# Altium footprint library 通用接插件.PcbLib: 40 footprints (part 2 of 3)
Each footprint in its own frame and in the unit in brackets; x right, y up, seen from the top. Pads: shape width x height; smd on the part's side, far side on the other; paste and mask are expansions set on the pad; w line width, h text height; cw(c..) or ccw(c..) is an arc to the next point about the centre after c.
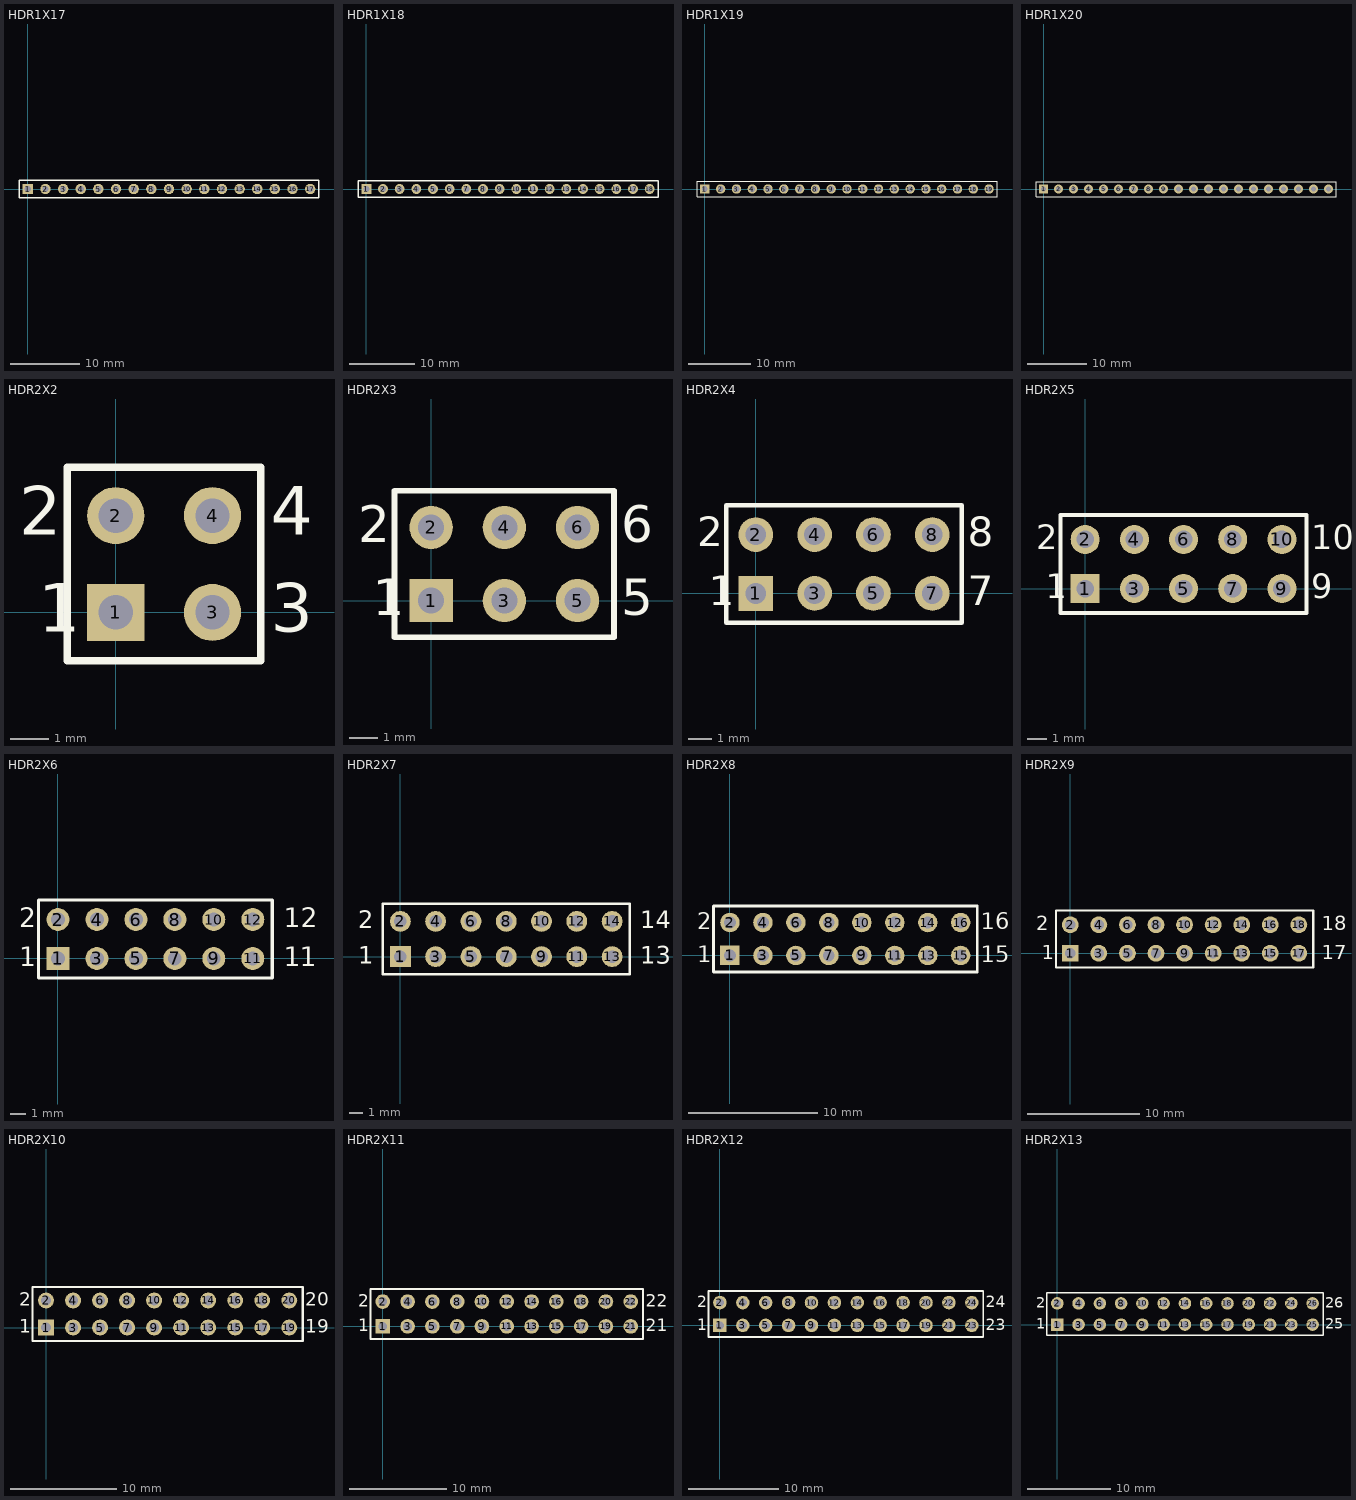
[diagram p1: the footprints below, top view; thin cyan lines are the x and y axes]

## HDR1X17 [mm] "Connector; Header; 17 Position"
pads (17):
  rect 1.5x1.5 hole 0.9: 1(0,0)
  round 1.5 hole 0.9: 2(2.54,0) 3(5.08,0) 4(7.62,0) 5(10.16,0) 6(12.7,0) 7(15.24,0) 8(17.78,0) 9(20.32,0) 10(22.86,0) 11(25.4,0) 12(27.94,0) 13(30.48,0) 14(33.02,0) 15(35.56,0) 16(38.1,0) 17(40.64,0)
Top Overlay:
  lines w0.2: -1.27,-1.27 41.91,-1.27 41.91,1.27 0.635,1.27 -1.27,1.27 -1.27,-1.27
3D body: height 7.58, standoff -2.94, extent 39.37,-1.27 41.91,1.27
3D body: height 7.58, standoff -2.94, extent 29.21,-1.27 31.75,1.27
3D body: height 7.58, standoff -2.94, extent 31.75,-1.27 34.29,1.27
3D body: height 7.58, standoff -2.94, extent 34.29,-1.27 36.83,1.27
3D body: height 7.58, standoff -2.94, extent 36.83,-1.27 39.37,1.27
3D body: height 7.58, standoff -2.94, extent 19.05,-1.27 21.59,1.27
3D body: height 7.58, standoff -2.94, extent 21.59,-1.27 24.13,1.27
3D body: height 7.58, standoff -2.94, extent 24.13,-1.27 26.67,1.27
3D body: height 7.58, standoff -2.94, extent 26.67,-1.27 29.21,1.27
3D body: height 7.58, standoff -2.94, extent 8.89,-1.27 11.43,1.27
3D body: height 7.58, standoff -2.94, extent 11.43,-1.27 13.97,1.27
3D body: height 7.58, standoff -2.94, extent 13.97,-1.27 16.51,1.27
3D body: height 7.58, standoff -2.94, extent 16.51,-1.27 19.05,1.27
3D body: height 7.58, standoff -2.94, extent -1.27,-1.27 1.27,1.27
3D body: height 7.58, standoff -2.94, extent 1.27,-1.27 3.81,1.27
3D body: height 7.58, standoff -2.94, extent 3.81,-1.27 6.35,1.27
3D body: height 7.58, standoff -2.94, extent 6.35,-1.27 8.89,1.27

## HDR1X18 [mm] "Connector; Header; 18 Position"
pads (18):
  rect 1.5x1.5 hole 0.9: 1(0,0)
  round 1.5 hole 0.9: 2(2.54,0) 3(5.08,0) 4(7.62,0) 5(10.16,0) 6(12.7,0) 7(15.24,0) 8(17.78,0) 9(20.32,0) 10(22.86,0) 11(25.4,0) 12(27.94,0) 13(30.48,0) 14(33.02,0) 15(35.56,0) 16(38.1,0) 17(40.64,0) 18(43.18,0)
Top Overlay:
  lines w0.2: -1.27,-1.27 44.45,-1.27 44.45,1.27 0.635,1.27 -1.27,1.27 -1.27,-1.27
3D body: height 7.58, standoff -2.94, extent 39.37,-1.27 41.91,1.27
3D body: height 7.58, standoff -2.94, extent 41.91,-1.27 44.45,1.27
3D body: height 7.58, standoff -2.94, extent 29.21,-1.27 31.75,1.27
3D body: height 7.58, standoff -2.94, extent 31.75,-1.27 34.29,1.27
3D body: height 7.58, standoff -2.94, extent 34.29,-1.27 36.83,1.27
3D body: height 7.58, standoff -2.94, extent 36.83,-1.27 39.37,1.27
3D body: height 7.58, standoff -2.94, extent 19.05,-1.27 21.59,1.27
3D body: height 7.58, standoff -2.94, extent 21.59,-1.27 24.13,1.27
3D body: height 7.58, standoff -2.94, extent 24.13,-1.27 26.67,1.27
3D body: height 7.58, standoff -2.94, extent 26.67,-1.27 29.21,1.27
3D body: height 7.58, standoff -2.94, extent 8.89,-1.27 11.43,1.27
3D body: height 7.58, standoff -2.94, extent 11.43,-1.27 13.97,1.27
3D body: height 7.58, standoff -2.94, extent 13.97,-1.27 16.51,1.27
3D body: height 7.58, standoff -2.94, extent 16.51,-1.27 19.05,1.27
3D body: height 7.58, standoff -2.94, extent -1.27,-1.27 1.27,1.27
3D body: height 7.58, standoff -2.94, extent 1.27,-1.27 3.81,1.27
3D body: height 7.58, standoff -2.94, extent 3.81,-1.27 6.35,1.27
3D body: height 7.58, standoff -2.94, extent 6.35,-1.27 8.89,1.27

## HDR1X19 [mm] "Connector; Header; 19 Position"
pads (19):
  rect 1.5x1.5 hole 0.9: 1(0,0)
  round 1.5 hole 0.9: 2(2.54,0) 3(5.08,0) 4(7.62,0) 5(10.16,0) 6(12.7,0) 7(15.24,0) 8(17.78,0) 9(20.32,0) 10(22.86,0) 11(25.4,0) 12(27.94,0) 13(30.48,0) 14(33.02,0) 15(35.56,0) 16(38.1,0) 17(40.64,0) 18(43.18,0) 19(45.72,0)
Top Overlay:
  lines w0.2: 37.465,1.27 37.677,1.27 ; -1.27,-1.27 46.99,-1.27 46.99,1.27 0.635,1.27 -1.27,1.27 -1.27,-1.27
3D body: height 7.58, standoff -2.94, extent 39.37,-1.27 41.91,1.27
3D body: height 7.58, standoff -2.94, extent 41.91,-1.27 44.45,1.27
3D body: height 7.58, standoff -2.94, extent 44.45,-1.27 46.99,1.27
3D body: height 7.58, standoff -2.94, extent 29.21,-1.27 31.75,1.27
3D body: height 7.58, standoff -2.94, extent 31.75,-1.27 34.29,1.27
3D body: height 7.58, standoff -2.94, extent 34.29,-1.27 36.83,1.27
3D body: height 7.58, standoff -2.94, extent 36.83,-1.27 39.37,1.27
3D body: height 7.58, standoff -2.94, extent 19.05,-1.27 21.59,1.27
3D body: height 7.58, standoff -2.94, extent 21.59,-1.27 24.13,1.27
3D body: height 7.58, standoff -2.94, extent 24.13,-1.27 26.67,1.27
3D body: height 7.58, standoff -2.94, extent 26.67,-1.27 29.21,1.27
3D body: height 7.58, standoff -2.94, extent 8.89,-1.27 11.43,1.27
3D body: height 7.58, standoff -2.94, extent 11.43,-1.27 13.97,1.27
3D body: height 7.58, standoff -2.94, extent 13.97,-1.27 16.51,1.27
3D body: height 7.58, standoff -2.94, extent 16.51,-1.27 19.05,1.27
3D body: height 7.58, standoff -2.94, extent -1.27,-1.27 1.27,1.27
3D body: height 7.58, standoff -2.94, extent 1.27,-1.27 3.81,1.27
3D body: height 7.58, standoff -2.94, extent 3.81,-1.27 6.35,1.27
3D body: height 7.58, standoff -2.94, extent 6.35,-1.27 8.89,1.27

## HDR1X20 [mm] "Connector; Header; 20 Position"
pads (20):
  rect 1.5x1.5 hole 0.9: 1(0,0)
  round 1.5 hole 0.9: 2(2.54,0) 3(5.08,0) 4(7.62,0) 5(10.16,0) 6(12.7,0) 7(15.24,0) 8(17.78,0) 9(20.32,0) 10(22.86,0) 11(25.4,0) 12(27.94,0) 13(30.48,0) 14(33.02,0) 15(35.56,0) 16(38.1,0) 17(40.64,0) 18(43.18,0) 19(45.72,0) 20(48.26,0)
Top Overlay:
  lines w0.2: -1.27,-1.27 49.53,-1.27 49.53,1.27 0.635,1.27 -1.27,1.27 -1.27,-1.27
3D body: height 7.58, standoff -2.94, extent 6.35,-1.27 8.89,1.27
3D body: height 7.58, standoff -2.94, extent 3.81,-1.27 6.35,1.27
3D body: height 7.58, standoff -2.94, extent 1.27,-1.27 3.81,1.27
3D body: height 7.58, standoff -2.94, extent -1.27,-1.27 1.27,1.27
3D body: height 7.58, standoff -2.94, extent 16.51,-1.27 19.05,1.27
3D body: height 7.58, standoff -2.94, extent 13.97,-1.27 16.51,1.27
3D body: height 7.58, standoff -2.94, extent 11.43,-1.27 13.97,1.27
3D body: height 7.58, standoff -2.94, extent 8.89,-1.27 11.43,1.27
3D body: height 7.58, standoff -2.94, extent 26.67,-1.27 29.21,1.27
3D body: height 7.58, standoff -2.94, extent 24.13,-1.27 26.67,1.27
3D body: height 7.58, standoff -2.94, extent 21.59,-1.27 24.13,1.27
3D body: height 7.58, standoff -2.94, extent 19.05,-1.27 21.59,1.27
3D body: height 7.58, standoff -2.94, extent 36.83,-1.27 39.37,1.27
3D body: height 7.58, standoff -2.94, extent 34.29,-1.27 36.83,1.27
3D body: height 7.58, standoff -2.94, extent 31.75,-1.27 34.29,1.27
3D body: height 7.58, standoff -2.94, extent 29.21,-1.27 31.75,1.27
3D body: height 7.58, standoff -2.94, extent 46.99,-1.27 49.53,1.27
3D body: height 7.58, standoff -2.94, extent 44.45,-1.27 46.99,1.27
3D body: height 7.58, standoff -2.94, extent 41.91,-1.27 44.45,1.27
3D body: height 7.58, standoff -2.94, extent 39.37,-1.27 41.91,1.27

## HDR2X2 [mm] "Connector; Header; 2x2 Position"
pads (4):
  rect 1.5x1.5 hole 0.9: 1(0,0)
  round 1.5 hole 0.9: 2(0,2.54) 3(2.54,0) 4(2.54,2.54)
Top Overlay:
  lines w0.2: -1.27,-1.27 3.81,-1.27 3.81,3.81 -1.27,3.81 -1.27,-1.27
  text "3" at 4.064,-0.508 h1.27
  text "4" at 4.064,2.032 h1.27
  text "2" at -2.54,2.032 h1.27
  text "1" at -2.032,-0.508 h1.27
3D body: height 7.58, standoff -2.94, extent 1.27,1.27 3.81,3.81
3D body: height 7.58, standoff -2.94, extent -1.27,1.27 1.27,3.81
3D body: height 7.58, standoff -2.94, extent 1.27,-1.27 3.81,1.27
3D body: height 7.58, standoff -2.94, extent -1.27,-1.27 1.27,1.27

## HDR2X3 [mm] "Connector; Header; 3x2 Position"
pads (6):
  rect 1.5x1.5 hole 0.9: 1(0,0)
  round 1.5 hole 0.9: 2(0,2.54) 3(2.54,0) 4(2.54,2.54) 5(5.08,0) 6(5.08,2.54)
Top Overlay:
  lines w0.2: 1.482,-1.27 6.35,-1.27 ; 6.35,-1.27 6.35,3.81 -1.27,3.81 -1.27,-1.27 6.35,-1.27
  text "6" at 6.604,2.032 h1.27
  text "5" at 6.604,-0.508 h1.27
  text "2" at -2.54,2.032 h1.27
  text "1" at -2.032,-0.508 h1.27
3D body: height 7.58, standoff -2.94, extent 1.27,1.27 3.81,3.81
3D body: height 7.58, standoff -2.94, extent -1.27,1.27 1.27,3.81
3D body: height 7.58, standoff -2.94, extent 1.27,-1.27 3.81,1.27
3D body: height 7.58, standoff -2.94, extent -1.27,-1.27 1.27,1.27
3D body: height 7.58, standoff -2.94, extent 3.81,-1.27 6.35,1.27
3D body: height 7.58, standoff -2.94, extent 3.81,1.27 6.35,3.81

## HDR2X4 [mm] "Connector; Header; 4x2 Position"
pads (8):
  rect 1.5x1.5 hole 0.9: 1(0,0)
  round 1.5 hole 0.9: 2(0,2.54) 3(2.54,0) 4(2.54,2.54) 5(5.08,0) 6(5.08,2.54) 7(7.62,0) 8(7.62,2.54)
Top Overlay:
  lines w0.2: -1.27,-1.27 -1.27,3.81 8.89,3.81 8.89,-1.27 -1.27,-1.27
  text "8" at 9.144,2.032 h1.27
  text "7" at 9.144,-0.508 h1.27
  text "1" at -2.032,-0.508 h1.27
  text "2" at -2.54,2.032 h1.27
3D body: height 7.58, standoff -2.94, extent 6.35,1.27 8.89,3.81
3D body: height 7.58, standoff -2.94, extent 6.35,-1.27 8.89,1.27
3D body: height 7.58, standoff -2.94, extent 1.27,1.27 3.81,3.81
3D body: height 7.58, standoff -2.94, extent -1.27,1.27 1.27,3.81
3D body: height 7.58, standoff -2.94, extent 1.27,-1.27 3.81,1.27
3D body: height 7.58, standoff -2.94, extent -1.27,-1.27 1.27,1.27
3D body: height 7.58, standoff -2.94, extent 3.81,-1.27 6.35,1.27
3D body: height 7.58, standoff -2.94, extent 3.81,1.27 6.35,3.81

## HDR2X5 [mm] "Connector; Header; 5x2 Position"
pads (10):
  rect 1.5x1.5 hole 0.9: 1(0,0)
  round 1.5 hole 0.9: 2(0,2.54) 3(2.54,0) 4(2.54,2.54) 5(5.08,0) 6(5.08,2.54) 7(7.62,0) 8(7.62,2.54) 9(10.16,0) 10(10.16,2.54)
Top Overlay:
  lines w0.2: -1.27,-1.27 -1.27,3.81 11.43,3.81 11.43,-1.27 -1.27,-1.27
  text "2" at -2.54,2.032 h1.27
  text "1" at -2.032,-0.508 h1.27
  text "9" at 11.684,-0.508 h1.27
  text "10" at 11.684,2.032 h1.27
3D body: height 7.58, standoff -2.94, extent 8.89,1.27 11.43,3.81
3D body: height 7.58, standoff -2.94, extent 8.89,-1.27 11.43,1.27
3D body: height 7.58, standoff -2.94, extent 6.35,1.27 8.89,3.81
3D body: height 7.58, standoff -2.94, extent 6.35,-1.27 8.89,1.27
3D body: height 7.58, standoff -2.94, extent 3.81,1.27 6.35,3.81
3D body: height 7.58, standoff -2.94, extent 3.81,-1.27 6.35,1.27
3D body: height 7.58, standoff -2.94, extent 1.27,1.27 3.81,3.81
3D body: height 7.58, standoff -2.94, extent 1.27,-1.27 3.81,1.27
3D body: height 7.58, standoff -2.94, extent -1.27,1.27 1.27,3.81
3D body: height 7.58, standoff -2.94, extent -1.27,-1.27 1.27,1.27

## HDR2X6 [mm] "Connector; Header; 6x2 Position"
pads (12):
  rect 1.5x1.5 hole 0.9: 1(0,0)
  round 1.5 hole 0.9: 2(0,2.54) 3(2.54,0) 4(2.54,2.54) 5(5.08,0) 6(5.08,2.54) 7(7.62,0) 8(7.62,2.54) 9(10.16,0) 10(10.16,2.54) 11(12.7,0) 12(12.7,2.54)
Top Overlay:
  lines w0.2: -1.27,-1.27 13.97,-1.27 13.97,3.81 -1.27,3.81 -1.27,-1.27
  text "12" at 14.732,2.032 h1.27
  text "1" at 15.748,-0.508 h1.27
  text "1" at 14.732,-0.508 h1.27
  text "1" at -2.54,-0.508 h1.27
  text "2" at -2.54,2.032 h1.27
3D body: height 7.58, standoff -2.94, extent 11.43,1.27 13.97,3.81
3D body: height 7.58, standoff -2.94, extent 11.43,-1.27 13.97,1.27
3D body: height 7.58, standoff -2.94, extent 8.89,1.27 11.43,3.81
3D body: height 7.58, standoff -2.94, extent 8.89,-1.27 11.43,1.27
3D body: height 7.58, standoff -2.94, extent 6.35,1.27 8.89,3.81
3D body: height 7.58, standoff -2.94, extent 6.35,-1.27 8.89,1.27
3D body: height 7.58, standoff -2.94, extent 3.81,1.27 6.35,3.81
3D body: height 7.58, standoff -2.94, extent 3.81,-1.27 6.35,1.27
3D body: height 7.58, standoff -2.94, extent 1.27,1.27 3.81,3.81
3D body: height 7.58, standoff -2.94, extent 1.27,-1.27 3.81,1.27
3D body: height 7.58, standoff -2.94, extent -1.27,1.27 1.27,3.81
3D body: height 7.58, standoff -2.94, extent -1.27,-1.27 1.27,1.27

## HDR2X7 [mm] "Connector; Header; 7x2 Position"
pads (14):
  rect 1.5x1.5 hole 0.9: 1(0,0)
  round 1.5 hole 0.9: 2(0,2.54) 3(2.54,0) 4(2.54,2.54) 5(5.08,0) 6(5.08,2.54) 7(7.62,0) 8(7.62,2.54) 9(10.16,0) 10(10.16,2.54) 11(12.7,0) 12(12.7,2.54) 13(15.24,0) 14(15.24,2.54)
Top Overlay:
  lines w0.2: -1.27,-1.27 16.51,-1.27 16.51,3.81 -1.27,3.81 -1.27,-1.27
  text "13" at 17.272,-0.508 h1.27
  text "14" at 17.272,2.032 h1.27
  text "1" at -3.048,-0.508 h1.27
  text "2" at -3.048,2.032 h1.27
3D body: height 7.58, standoff -2.94, extent 13.97,1.27 16.51,3.81
3D body: height 7.58, standoff -2.94, extent 13.97,-1.27 16.51,1.27
3D body: height 7.58, standoff -2.94, extent 11.43,1.27 13.97,3.81
3D body: height 7.58, standoff -2.94, extent 11.43,-1.27 13.97,1.27
3D body: height 7.58, standoff -2.94, extent 8.89,1.27 11.43,3.81
3D body: height 7.58, standoff -2.94, extent 8.89,-1.27 11.43,1.27
3D body: height 7.58, standoff -2.94, extent 6.35,1.27 8.89,3.81
3D body: height 7.58, standoff -2.94, extent 6.35,-1.27 8.89,1.27
3D body: height 7.58, standoff -2.94, extent 3.81,1.27 6.35,3.81
3D body: height 7.58, standoff -2.94, extent 3.81,-1.27 6.35,1.27
3D body: height 7.58, standoff -2.94, extent 1.27,1.27 3.81,3.81
3D body: height 7.58, standoff -2.94, extent 1.27,-1.27 3.81,1.27
3D body: height 7.58, standoff -2.94, extent -1.27,1.27 1.27,3.81
3D body: height 7.58, standoff -2.94, extent -1.27,-1.27 1.27,1.27

## HDR2X8 [mm] "Connector; Header; 8x2 Position"
pads (16):
  rect 1.5x1.5 hole 0.9: 1(0,0)
  round 1.5 hole 0.9: 2(0,2.54) 3(2.54,0) 4(2.54,2.54) 5(5.08,0) 6(5.08,2.54) 7(7.62,0) 8(7.62,2.54) 9(10.16,0) 10(10.16,2.54) 11(12.7,0) 12(12.7,2.54) 13(15.24,0) 14(15.24,2.54) 15(17.78,0) 16(17.78,2.54)
Top Overlay:
  lines w0.2: -1.27,-1.27 19.05,-1.27 19.05,3.81 -1.27,3.81 -1.27,-1.27
  text "16" at 19.304,2.032 h1.27
  text "15" at 19.304,-0.508 h1.27
  text "1" at -2.54,-0.508 h1.27
  text "2" at -2.54,2.032 h1.27
3D body: height 7.58, standoff -2.94, extent 16.51,1.27 19.05,3.81
3D body: height 7.58, standoff -2.94, extent 16.51,-1.27 19.05,1.27
3D body: height 7.58, standoff -2.94, extent 13.97,1.27 16.51,3.81
3D body: height 7.58, standoff -2.94, extent 13.97,-1.27 16.51,1.27
3D body: height 7.58, standoff -2.94, extent 11.43,1.27 13.97,3.81
3D body: height 7.58, standoff -2.94, extent 11.43,-1.27 13.97,1.27
3D body: height 7.58, standoff -2.94, extent 8.89,1.27 11.43,3.81
3D body: height 7.58, standoff -2.94, extent 8.89,-1.27 11.43,1.27
3D body: height 7.58, standoff -2.94, extent 6.35,1.27 8.89,3.81
3D body: height 7.58, standoff -2.94, extent 6.35,-1.27 8.89,1.27
3D body: height 7.58, standoff -2.94, extent 3.81,1.27 6.35,3.81
3D body: height 7.58, standoff -2.94, extent 3.81,-1.27 6.35,1.27
3D body: height 7.58, standoff -2.94, extent 1.27,1.27 3.81,3.81
3D body: height 7.58, standoff -2.94, extent 1.27,-1.27 3.81,1.27
3D body: height 7.58, standoff -2.94, extent -1.27,1.27 1.27,3.81
3D body: height 7.58, standoff -2.94, extent -1.27,-1.27 1.27,1.27

## HDR2X9 [mm] "Connector; Header; 9x2 Position"
pads (18):
  rect 1.5x1.5 hole 0.9: 1(0,0)
  round 1.5 hole 0.9: 2(0,2.54) 3(2.54,0) 4(2.54,2.54) 5(5.08,0) 6(5.08,2.54) 7(7.62,0) 8(7.62,2.54) 9(10.16,0) 10(10.16,2.54) 11(12.7,0) 12(12.7,2.54) 13(15.24,0) 14(15.24,2.54) 15(17.78,0) 16(17.78,2.54) 17(20.32,0) 18(20.32,2.54)
Top Overlay:
  lines w0.2: -1.27,-1.27 21.59,-1.27 21.59,3.81 -1.27,3.81 -1.27,-1.27
  text "18" at 22.352,2.032 h1.27
  text "17" at 22.352,-0.508 h1.27
  text "1" at -2.54,-0.508 h1.27
  text "2" at -3.048,2.032 h1.27
3D body: height 7.58, standoff -2.94, extent -1.27,1.27 1.27,3.81
3D body: height 7.58, standoff -2.94, extent -1.27,-1.27 1.27,1.27
3D body: height 7.58, standoff -2.94, extent 1.27,1.27 3.81,3.81
3D body: height 7.58, standoff -2.94, extent 1.27,-1.27 3.81,1.27
3D body: height 7.58, standoff -2.94, extent 3.81,1.27 6.35,3.81
3D body: height 7.58, standoff -2.94, extent 3.81,-1.27 6.35,1.27
3D body: height 7.58, standoff -2.94, extent 6.35,1.27 8.89,3.81
3D body: height 7.58, standoff -2.94, extent 6.35,-1.27 8.89,1.27
3D body: height 7.58, standoff -2.94, extent 8.89,1.27 11.43,3.81
3D body: height 7.58, standoff -2.94, extent 8.89,-1.27 11.43,1.27
3D body: height 7.58, standoff -2.94, extent 11.43,1.27 13.97,3.81
3D body: height 7.58, standoff -2.94, extent 11.43,-1.27 13.97,1.27
3D body: height 7.58, standoff -2.94, extent 13.97,1.27 16.51,3.81
3D body: height 7.58, standoff -2.94, extent 13.97,-1.27 16.51,1.27
3D body: height 7.58, standoff -2.94, extent 16.51,1.27 19.05,3.81
3D body: height 7.58, standoff -2.94, extent 16.51,-1.27 19.05,1.27
3D body: height 7.58, standoff -2.94, extent 19.05,1.27 21.59,3.81
3D body: height 7.58, standoff -2.94, extent 19.05,-1.27 21.59,1.27

## HDR2X10 [mm] "Connector; Header; 10x2 Position"
pads (20):
  rect 1.5x1.5 hole 0.9: 1(0,0)
  round 1.5 hole 0.9: 2(0,2.54) 3(2.54,0) 4(2.54,2.54) 5(5.08,0) 6(5.08,2.54) 7(7.62,0) 8(7.62,2.54) 9(10.16,0) 10(10.16,2.54) 11(12.7,0) 12(12.7,2.54) 13(15.24,0) 14(15.24,2.54) 15(17.78,0) 16(17.78,2.54) 17(20.32,0) 18(20.32,2.54) 19(22.86,0) 20(22.86,2.54)
Top Overlay:
  lines w0.2: -1.27,-1.27 -1.27,3.81 0.635,3.81 24.13,3.81 24.13,-1.27 0.635,-1.27 -1.27,-1.27
  text "2" at -2.54,2.032 h1.27
  text "1" at -2.54,-0.508 h1.27
  text "19" at 24.384,-0.508 h1.27
  text "20" at 24.384,2.032 h1.27
3D body: height 7.58, standoff -2.94, extent 21.59,1.27 24.13,3.81
3D body: height 7.58, standoff -2.94, extent 21.59,-1.27 24.13,1.27
3D body: height 7.58, standoff -2.94, extent 19.05,1.27 21.59,3.81
3D body: height 7.58, standoff -2.94, extent 19.05,-1.27 21.59,1.27
3D body: height 7.58, standoff -2.94, extent 16.51,1.27 19.05,3.81
3D body: height 7.58, standoff -2.94, extent 16.51,-1.27 19.05,1.27
3D body: height 7.58, standoff -2.94, extent 13.97,1.27 16.51,3.81
3D body: height 7.58, standoff -2.94, extent 13.97,-1.27 16.51,1.27
3D body: height 7.58, standoff -2.94, extent 11.43,1.27 13.97,3.81
3D body: height 7.58, standoff -2.94, extent 11.43,-1.27 13.97,1.27
3D body: height 7.58, standoff -2.94, extent 8.89,1.27 11.43,3.81
3D body: height 7.58, standoff -2.94, extent 8.89,-1.27 11.43,1.27
3D body: height 7.58, standoff -2.94, extent 6.35,1.27 8.89,3.81
3D body: height 7.58, standoff -2.94, extent 6.35,-1.27 8.89,1.27
3D body: height 7.58, standoff -2.94, extent 3.81,1.27 6.35,3.81
3D body: height 7.58, standoff -2.94, extent 3.81,-1.27 6.35,1.27
3D body: height 7.58, standoff -2.94, extent 1.27,1.27 3.81,3.81
3D body: height 7.58, standoff -2.94, extent 1.27,-1.27 3.81,1.27
3D body: height 7.58, standoff -2.94, extent -1.27,1.27 1.27,3.81
3D body: height 7.58, standoff -2.94, extent -1.27,-1.27 1.27,1.27

## HDR2X11 [mm] "Connector; Header; 11x2 Position"
pads (22):
  rect 1.5x1.5 hole 0.9: 1(0,0)
  round 1.5 hole 0.9: 2(0,2.54) 3(2.54,0) 4(2.54,2.54) 5(5.08,0) 6(5.08,2.54) 7(7.62,0) 8(7.62,2.54) 9(10.16,0) 10(10.16,2.54) 11(12.7,0) 12(12.7,2.54) 13(15.24,0) 14(15.24,2.54) 15(17.78,0) 16(17.78,2.54) 17(20.32,0) 18(20.32,2.54) 19(22.86,0) 20(22.86,2.54) 21(25.4,0) 22(25.4,2.54)
Top Overlay:
  lines w0.2: -1.27,-1.27 -1.27,3.81 26.67,3.81 26.67,-1.27 -1.27,-1.27
  text "1" at -2.54,-0.508 h1.27
  text "2" at -2.54,2.032 h1.27
  text "21" at 26.924,-0.508 h1.27
  text "22" at 26.924,2.032 h1.27
3D body: height 7.58, standoff -2.94, extent 24.13,1.27 26.67,3.81
3D body: height 7.58, standoff -2.94, extent 24.13,-1.27 26.67,1.27
3D body: height 7.58, standoff -2.94, extent 21.59,1.27 24.13,3.81
3D body: height 7.58, standoff -2.94, extent 21.59,-1.27 24.13,1.27
3D body: height 7.58, standoff -2.94, extent 19.05,1.27 21.59,3.81
3D body: height 7.58, standoff -2.94, extent 19.05,-1.27 21.59,1.27
3D body: height 7.58, standoff -2.94, extent 16.51,1.27 19.05,3.81
3D body: height 7.58, standoff -2.94, extent 16.51,-1.27 19.05,1.27
3D body: height 7.58, standoff -2.94, extent 13.97,1.27 16.51,3.81
3D body: height 7.58, standoff -2.94, extent 13.97,-1.27 16.51,1.27
3D body: height 7.58, standoff -2.94, extent 11.43,1.27 13.97,3.81
3D body: height 7.58, standoff -2.94, extent 11.43,-1.27 13.97,1.27
3D body: height 7.58, standoff -2.94, extent 8.89,1.27 11.43,3.81
3D body: height 7.58, standoff -2.94, extent 8.89,-1.27 11.43,1.27
3D body: height 7.58, standoff -2.94, extent 6.35,1.27 8.89,3.81
3D body: height 7.58, standoff -2.94, extent 6.35,-1.27 8.89,1.27
3D body: height 7.58, standoff -2.94, extent 3.81,1.27 6.35,3.81
3D body: height 7.58, standoff -2.94, extent 3.81,-1.27 6.35,1.27
3D body: height 7.58, standoff -2.94, extent 1.27,1.27 3.81,3.81
3D body: height 7.58, standoff -2.94, extent 1.27,-1.27 3.81,1.27
3D body: height 7.58, standoff -2.94, extent -1.27,1.27 1.27,3.81
3D body: height 7.58, standoff -2.94, extent -1.27,-1.27 1.27,1.27

## HDR2X12 [mm] "Connector; Header; 12x2 Position"
pads (24):
  rect 1.5x1.5 hole 0.9: 1(0,0)
  round 1.5 hole 0.9: 2(0,2.54) 3(2.54,0) 4(2.54,2.54) 5(5.08,0) 6(5.08,2.54) 7(7.62,0) 8(7.62,2.54) 9(10.16,0) 10(10.16,2.54) 11(12.7,0) 12(12.7,2.54) 13(15.24,0) 14(15.24,2.54) 15(17.78,0) 16(17.78,2.54) 17(20.32,0) 18(20.32,2.54) 19(22.86,0) 20(22.86,2.54) 21(25.4,0) 22(25.4,2.54) 23(27.94,0) 24(27.94,2.54)
Top Overlay:
  lines w0.2: -1.27,-1.27 -1.27,3.81 29.21,3.81 29.21,-1.27 -1.27,-1.27
  text "1" at -2.54,-0.508 h1.27
  text "2" at -2.54,2.032 h1.27
  text "23" at 29.464,-0.508 h1.27
  text "24" at 29.464,2.032 h1.27
3D body: height 7.58, standoff -2.94, extent 26.67,1.27 29.21,3.81
3D body: height 7.58, standoff -2.94, extent 26.67,-1.27 29.21,1.27
3D body: height 7.58, standoff -2.94, extent 24.13,1.27 26.67,3.81
3D body: height 7.58, standoff -2.94, extent 24.13,-1.27 26.67,1.27
3D body: height 7.58, standoff -2.94, extent 21.59,1.27 24.13,3.81
3D body: height 7.58, standoff -2.94, extent 21.59,-1.27 24.13,1.27
3D body: height 7.58, standoff -2.94, extent 19.05,1.27 21.59,3.81
3D body: height 7.58, standoff -2.94, extent 19.05,-1.27 21.59,1.27
3D body: height 7.58, standoff -2.94, extent 16.51,1.27 19.05,3.81
3D body: height 7.58, standoff -2.94, extent 16.51,-1.27 19.05,1.27
3D body: height 7.58, standoff -2.94, extent 13.97,1.27 16.51,3.81
3D body: height 7.58, standoff -2.94, extent 13.97,-1.27 16.51,1.27
3D body: height 7.58, standoff -2.94, extent 11.43,1.27 13.97,3.81
3D body: height 7.58, standoff -2.94, extent 11.43,-1.27 13.97,1.27
3D body: height 7.58, standoff -2.94, extent 8.89,1.27 11.43,3.81
3D body: height 7.58, standoff -2.94, extent 8.89,-1.27 11.43,1.27
3D body: height 7.58, standoff -2.94, extent 6.35,1.27 8.89,3.81
3D body: height 7.58, standoff -2.94, extent 6.35,-1.27 8.89,1.27
3D body: height 7.58, standoff -2.94, extent 3.81,1.27 6.35,3.81
3D body: height 7.58, standoff -2.94, extent 3.81,-1.27 6.35,1.27
3D body: height 7.58, standoff -2.94, extent 1.27,1.27 3.81,3.81
3D body: height 7.58, standoff -2.94, extent 1.27,-1.27 3.81,1.27
3D body: height 7.58, standoff -2.94, extent -1.27,1.27 1.27,3.81
3D body: height 7.58, standoff -2.94, extent -1.27,-1.27 1.27,1.27

## HDR2X13 [mm] "Connector; Header; 13x2 Position"
pads (26):
  rect 1.5x1.5 hole 0.9: 1(0,0)
  round 1.5 hole 0.9: 2(0,2.54) 3(2.54,0) 4(2.54,2.54) 5(5.08,0) 6(5.08,2.54) 7(7.62,0) 8(7.62,2.54) 9(10.16,0) 10(10.16,2.54) 11(12.7,0) 12(12.7,2.54) 13(15.24,0) 14(15.24,2.54) 15(17.78,0) 16(17.78,2.54) 17(20.32,0) 18(20.32,2.54) 19(22.86,0) 20(22.86,2.54) 21(25.4,0) 22(25.4,2.54) 23(27.94,0) 24(27.94,2.54) 25(30.48,0) 26(30.48,2.54)
Top Overlay:
  lines w0.2: -1.27,-1.27 -1.27,3.81 31.75,3.81 31.75,-1.27 -1.27,-1.27
  text "2" at -2.54,2.032 h1.27
  text "1" at -2.54,-0.508 h1.27
  text "25" at 32.004,-0.508 h1.27
  text "26" at 32.004,2.032 h1.27
3D body: height 7.58, standoff -2.94, extent -1.27,1.27 1.27,3.81
3D body: height 7.58, standoff -2.94, extent -1.27,-1.27 1.27,1.27
3D body: height 7.58, standoff -2.94, extent 1.27,1.27 3.81,3.81
3D body: height 7.58, standoff -2.94, extent 1.27,-1.27 3.81,1.27
3D body: height 7.58, standoff -2.94, extent 3.81,1.27 6.35,3.81
3D body: height 7.58, standoff -2.94, extent 3.81,-1.27 6.35,1.27
3D body: height 7.58, standoff -2.94, extent 6.35,1.27 8.89,3.81
3D body: height 7.58, standoff -2.94, extent 6.35,-1.27 8.89,1.27
3D body: height 7.58, standoff -2.94, extent 8.89,1.27 11.43,3.81
3D body: height 7.58, standoff -2.94, extent 8.89,-1.27 11.43,1.27
3D body: height 7.58, standoff -2.94, extent 11.43,1.27 13.97,3.81
3D body: height 7.58, standoff -2.94, extent 11.43,-1.27 13.97,1.27
3D body: height 7.58, standoff -2.94, extent 13.97,1.27 16.51,3.81
3D body: height 7.58, standoff -2.94, extent 13.97,-1.27 16.51,1.27
3D body: height 7.58, standoff -2.94, extent 16.51,1.27 19.05,3.81
3D body: height 7.58, standoff -2.94, extent 16.51,-1.27 19.05,1.27
3D body: height 7.58, standoff -2.94, extent 19.05,1.27 21.59,3.81
3D body: height 7.58, standoff -2.94, extent 19.05,-1.27 21.59,1.27
3D body: height 7.58, standoff -2.94, extent 21.59,1.27 24.13,3.81
3D body: height 7.58, standoff -2.94, extent 21.59,-1.27 24.13,1.27
3D body: height 7.58, standoff -2.94, extent 24.13,1.27 26.67,3.81
3D body: height 7.58, standoff -2.94, extent 24.13,-1.27 26.67,1.27
3D body: height 7.58, standoff -2.94, extent 26.67,1.27 29.21,3.81
3D body: height 7.58, standoff -2.94, extent 26.67,-1.27 29.21,1.27
3D body: height 7.58, standoff -2.94, extent 29.21,1.27 31.75,3.81
3D body: height 7.58, standoff -2.94, extent 29.21,-1.27 31.75,1.27